# Altium footprint library ArduinoUNO.PcbLib: 1 footprints
Each footprint in its own frame and in the unit in brackets; x right, y up, seen from the top. Pads: shape width x height; smd on the part's side, far side on the other; paste and mask are expansions set on the pad; w line width, h text height; cw(c..) or ccw(c..) is an arc to the next point about the centre after c.
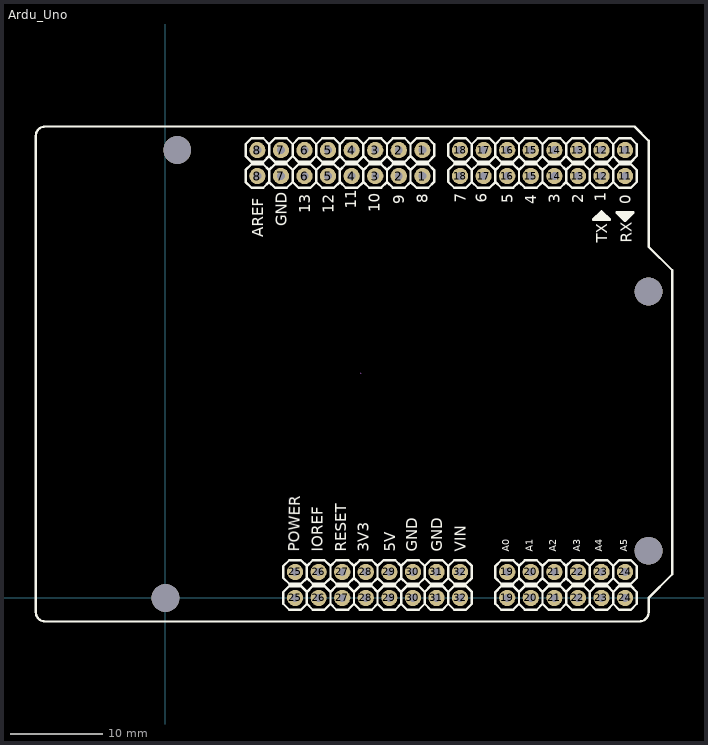
[diagram p0: the footprint, top view; thin cyan lines are the x and y axes]

## Ardu_Uno [mm]
pads (64):
  round 1.75 hole 0.85: 1(27.686,45.466) 1(27.686,48.26) 2(25.146,45.466) 2(25.146,48.26) 3(22.606,45.466) 3(22.606,48.26) 4(20.066,45.466) 4(20.066,48.26) 5(17.526,45.466) 5(17.526,48.26) 6(14.986,45.466) 6(14.986,48.26) 7(12.446,45.466) 7(12.446,48.26) 8(9.906,45.466) 8(9.906,48.26) 11(49.53,45.466) 11(49.53,48.26) 12(46.99,45.466) 12(46.99,48.26) 13(44.45,45.466) 13(44.45,48.26) 14(41.91,45.466) 14(41.91,48.26) 15(39.37,45.466) 15(39.37,48.26) 16(36.83,45.466) 16(36.83,48.26) 17(34.29,45.466) 17(34.29,48.26) 18(31.75,45.466) 18(31.75,48.26) 19(36.83,0) 19(36.83,2.794) 20(39.37,0) 20(39.37,2.794) 21(41.91,0) 21(41.91,2.794) 22(44.45,0) 22(44.45,2.794) 23(46.99,0) 23(46.99,2.794) 24(49.53,0) 24(49.53,2.794) 25(13.97,0) 25(13.97,2.794) 26(16.51,0) 26(16.51,2.794) 27(19.05,0) 27(19.05,2.794) 28(21.59,0) 28(21.59,2.794) 29(24.13,0) 29(24.13,2.794) 30(26.67,0) 30(26.67,2.794) 31(29.21,0) 31(29.21,2.794) 32(31.75,0) 32(31.75,2.794)
  round 3 hole 3 unplated: ""(0,0) ""(1.27,48.26) ""(52.07,5.08) ""(52.07,33.02)
Top Overlay:
  drawing of 458 lines, arcs and shapes, not listed
  text "5V" at 24.74,4.978 h1.17
  text "A0" at 37.059,4.978 h0.76
  text "AREF" at 10.516,38.887 h1.17
  text "GND" at 13.056,40.03 h1.17
  text "TX" at 47.6,38.252 h1.17
  text "RX" at 50.267,38.252 h1.17
  text "RESET" at 19.507,4.978 h1.17
  text "3V3" at 21.923,4.978 h1.17
  text "A1" at 39.599,4.978 h0.76
  text "A2" at 42.139,4.978 h0.76
  text "A3" at 44.679,4.978 h0.76
  text "A4" at 47.092,4.978 h0.76
  text "A5" at 49.759,4.978 h0.76
  text "VIN" at 32.36,4.978 h1.17
  text "GND" at 29.82,4.978 h1.17
  text "13" at 15.596,41.427 h1.17
  text "12" at 18.136,41.427 h1.17
  text "11" at 20.549,41.935 h1.17
  text "10" at 23.089,41.554 h1.17
  text "9" at 25.756,42.443 h1.17
  text "8" at 28.27,42.545 h1.17
  text "7" at 32.36,42.57 h1.17
  text "6" at 34.646,42.57 h1.17
  text "5" at 37.414,42.545 h1.17
  text "4" at 39.98,42.443 h1.17
  text "3" at 42.494,42.545 h1.17
  text "2" at 45.034,42.545 h1.17
  text "1" at 47.473,42.697 h1.17
  text "0" at 50.14,42.443 h1.17
  text "IOREF" at 16.967,4.978 h1.17
  text "POWER" at 14.397,4.981 h1.17
  text "GND" at 27.153,4.978 h1.17
Mechanical 15:
  lines w0.003: 21.057,24.232 21.107,24.283